# Altium footprint library J2.PcbLib: 1 footprints
Each footprint in its own frame and in the unit in brackets; x right, y up, seen from the top. Pads: shape width x height; smd on the part's side, far side on the other; paste and mask are expansions set on the pad; w line width, h text height; cw(c..) or ccw(c..) is an arc to the next point about the centre after c.
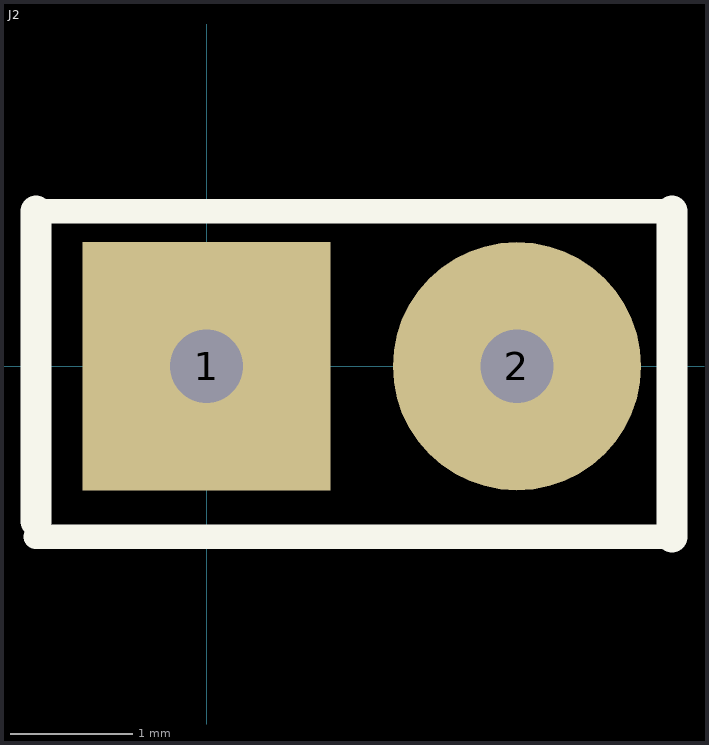
[diagram p0: the footprint, top view; thin cyan lines are the x and y axes]

## J2 [mil]
pads (2):
  rect 80x80 hole 23.62: 1(0,0)
  round 80 hole 23.62: 2(100,0)
Top Overlay:
  lines w7.87: -55,-55 150,-55 ; -55,50 150,50
  lines w10: -55,-50 -55,50 ; 150,-55 150,50